# Altium integrated library BajaIntegrated.IntLib: 243 symbols (part 2 of 2)
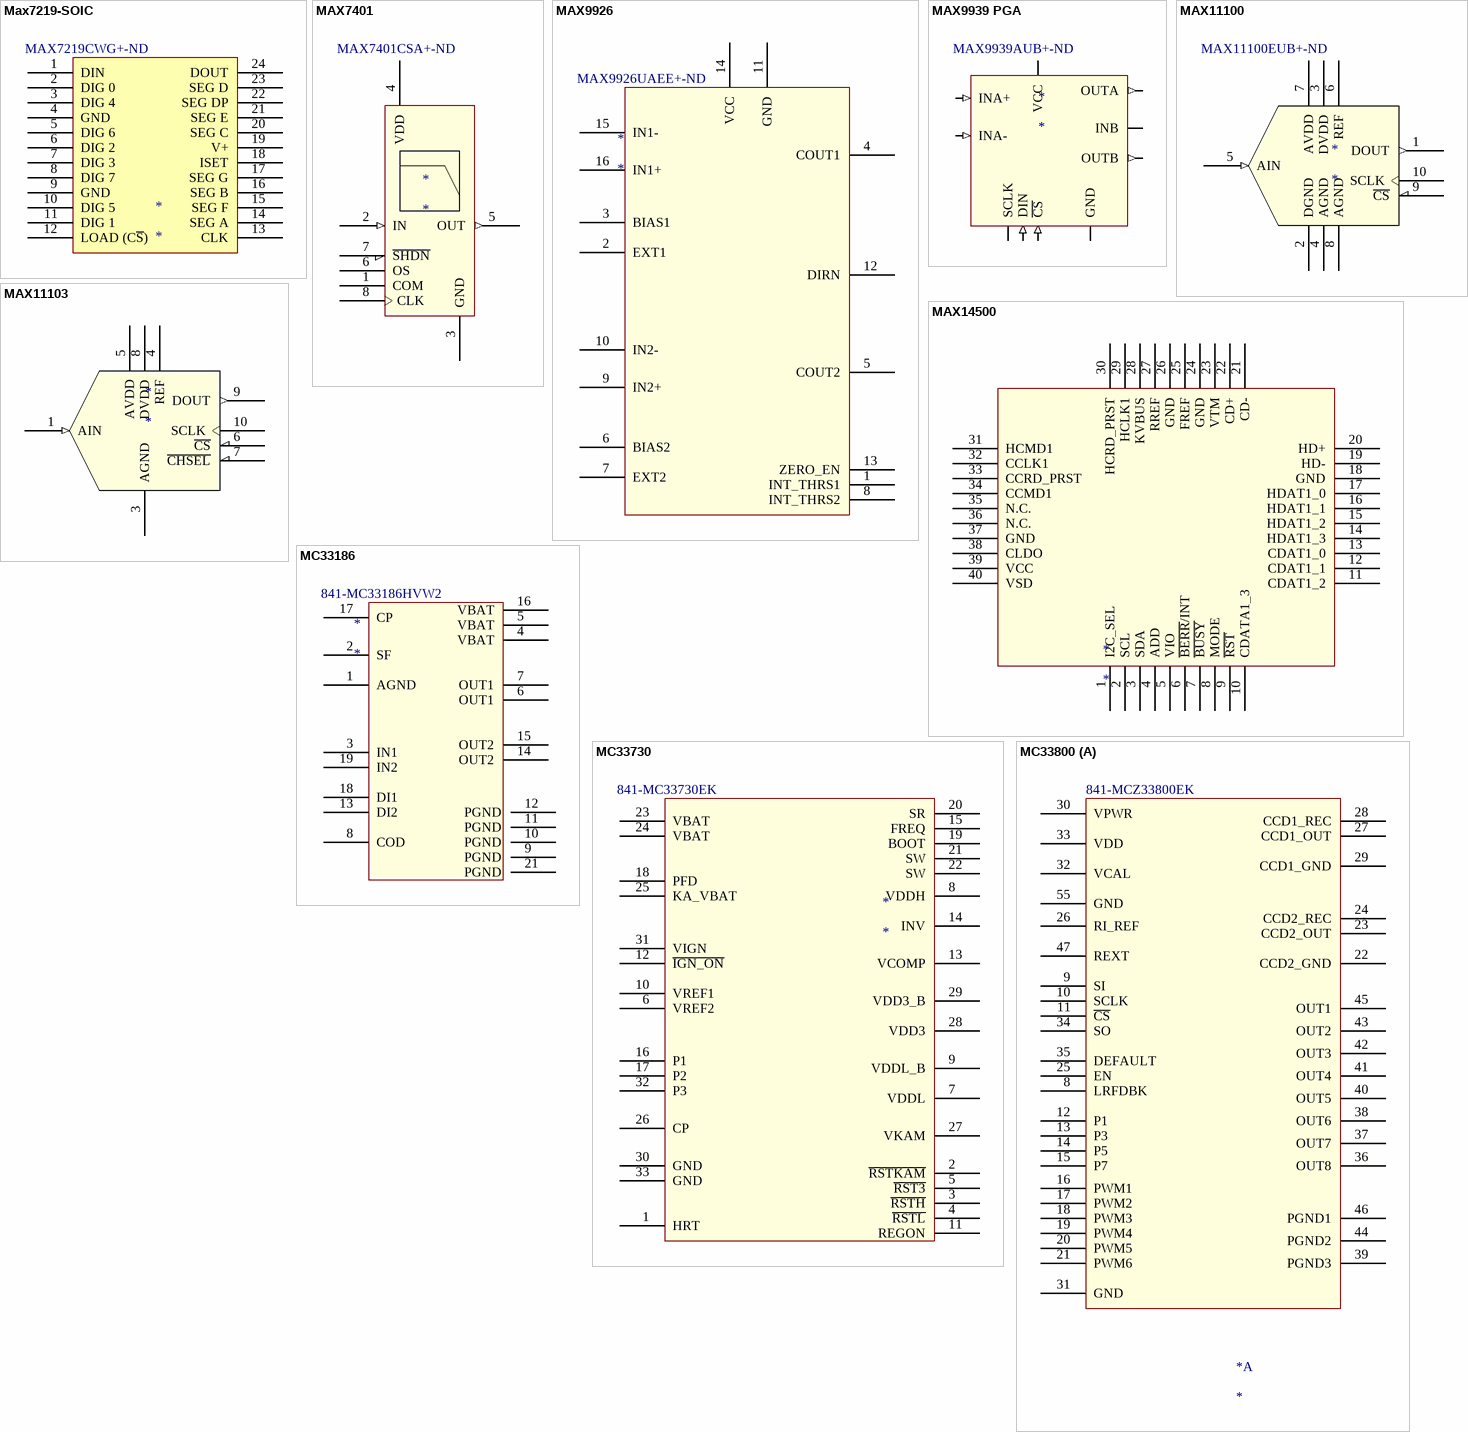
[diagram p17: symbols Max7219-SOIC to MC33800]

## MAX14500
designator *
pins: 1 I2C_SEL, 2 SCL, 3 SDA, 4 ADD, 5 VIO, 6 ~{BERR}/INT, 7 ~{BUSY}, 8 MODE, 9 ~{RST}, 10 CDATA1_3, 11 CDAT1_2, 12 CDAT1_1, 13 CDAT1_0, 14 HDAT1_3, 15 HDAT1_2, 16 HDAT1_1, 17 HDAT1_0, 18 GND, 19 HD-, 20 HD+, 21 CD-, 22 CD+, 23 VTM, 24 GND, 25 FREF, 26 GND, 27 RREF, 28 KVBUS, 29 HCLK1, 30 HCRD_PRST, 31 HCMD1, 32 CCLK1, 33 CCRD_PRST, 34 CCMD1, 35 N.C., 36 N.C., 37 GND, 38 CLDO, 39 VCC, 40 VSD

## MC33186
designator *  Supplier Part Number 1: 841-MC33186HVW2
Supplier 1: Mouser
footprint MC33186 (SOP, 20-Leads, Body 16.0x11.1mm (max), Pitch 1.27mm, IPC Medium Density)
pins: 1 AGND, 2 SF, 3 IN1, 4 VBAT, 5 VBAT, 6 OUT1, 7 OUT1, 8 COD, 9 PGND, 10 PGND, 11 PGND, 12 PGND, 13 DI2, 14 OUT2, 15 OUT2, 16 VBAT, 17 CP, 18 DI1, 19 IN2, 21 PGND

## MC33730
designator *  Supplier Part Number 1: 841-MC33730EK
Supplier 1: Mouser
footprint MC33730 (SOP, 32-Leads, Body 11.1x7.6mm (max), Pitch 0.65mm, IPC Medium Density)
pins: 1 HRT, 2 ~{RSTKAM}, 3 ~{RSTH}, 4 ~{RSTL}, 5 ~{RST3}, 6 VREF2, 7 VDDL, 8 VDDH, 9 VDDL_B, 10 VREF1, 11 REGON, 12 ~{IGN_ON}, 13 VCOMP, 14 INV, 15 FREQ, 16 P1, 17 P2, 18 PFD, 19 BOOT, 20 SR, 21 SW, 22 SW, 23 VBAT, 24 VBAT, 25 KA_VBAT, 26 CP, 27 VKAM, 28 VDD3, 29 VDD3_B, 30 GND, 31 VIGN, 32 P3, 33 GND

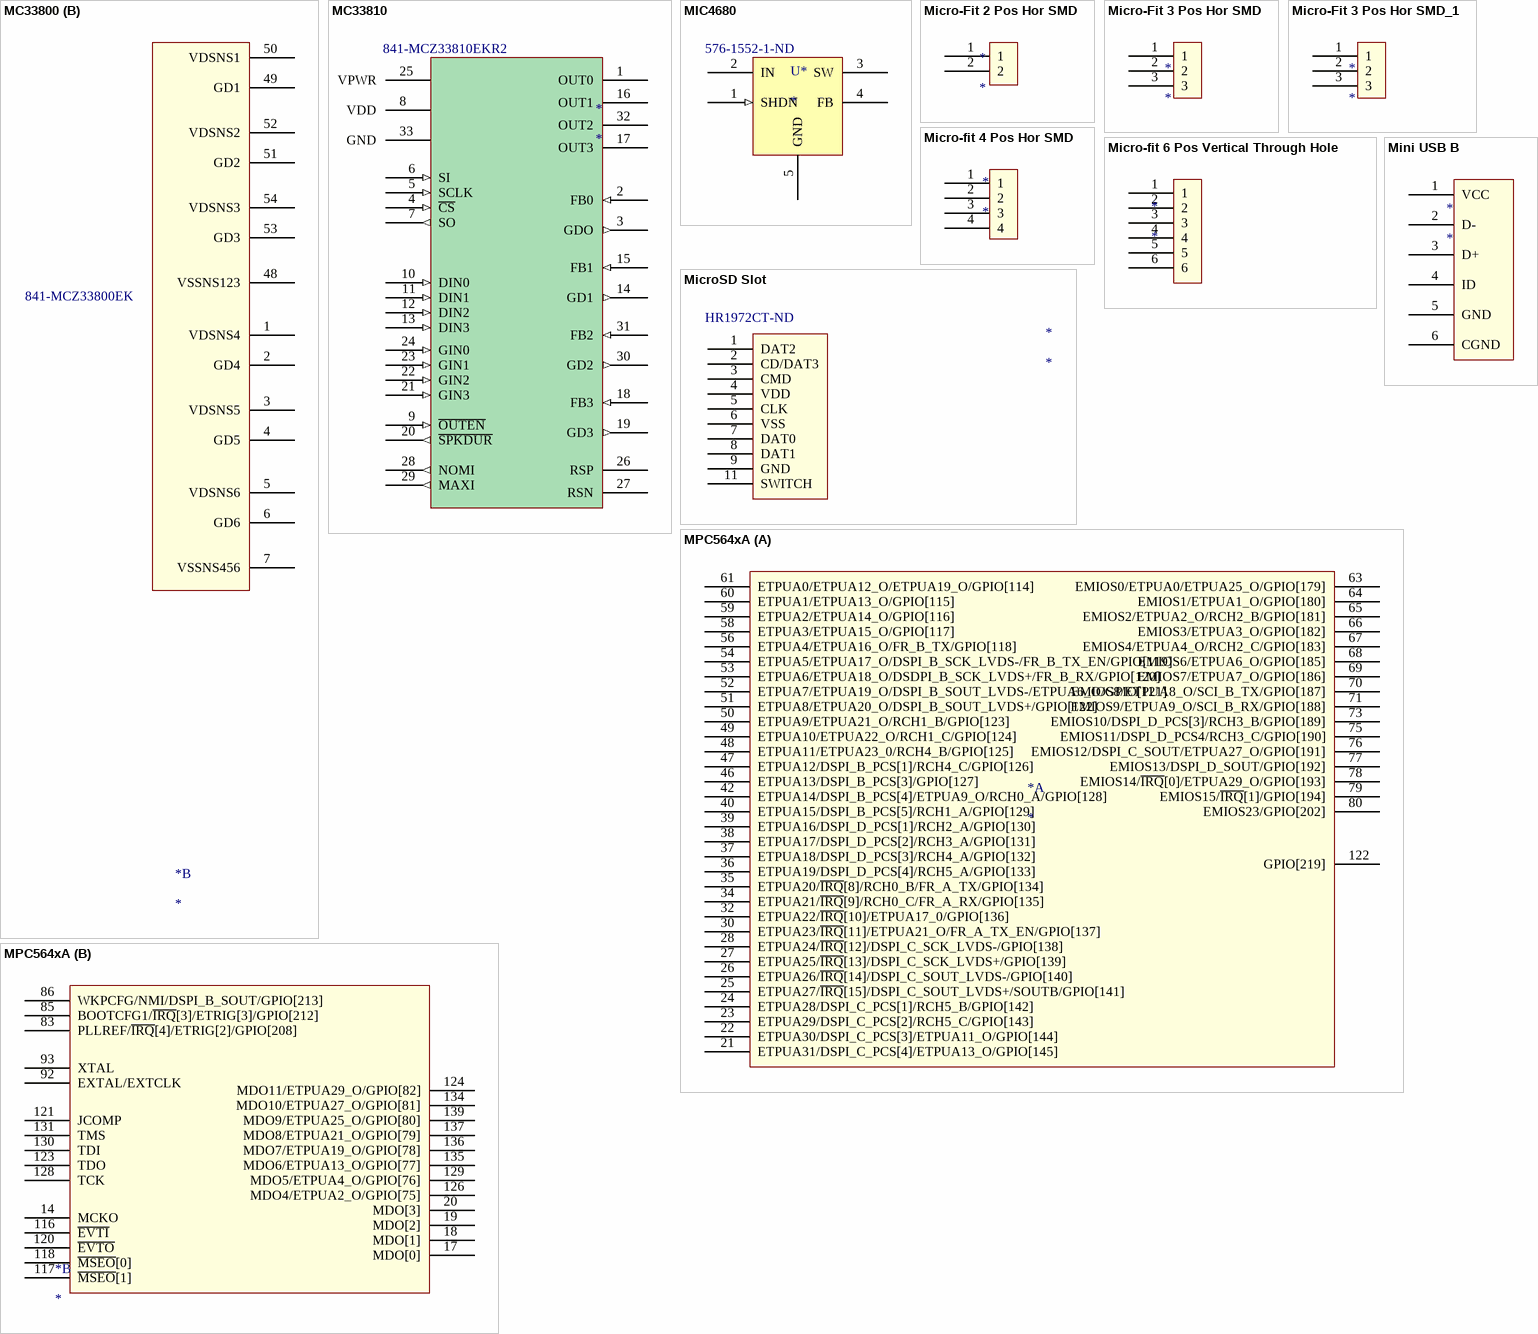
[diagram p9: symbols MC33800 to MPC564xA]

## MC33800
designator *  Supplier Part Number 1: 841-MCZ33800EK
Supplier 1: Mouser
footprint MC33800 (SOP, 54-Leads, Body 18.0x7.6mm (max), Pitch 0.65mm, IPC Medium Density)
part A pins: 8 LRFDBK, 9 SI, 10 SCLK, 11 ~{CS}, 12 P1, 13 P3, 14 P5, 15 P7, 16 PWM1, 17 PWM2, 18 PWM3, 19 PWM4, 20 PWM5, 21 PWM6, 22 CCD2_GND, 23 CCD2_OUT, 24 CCD2_REC, 25 EN, 26 RI_REF, 27 CCD1_OUT, 28 CCD1_REC, 29 CCD1_GND, 30 VPWR, 31 GND, 32 VCAL, 33 VDD, 34 SO, 35 DEFAULT, 36 OUT8, 37 OUT7, 38 OUT6, 39 PGND3, 40 OUT5, 41 OUT4, 42 OUT3, 43 OUT2, 44 PGND2, 45 OUT1, 46 PGND1, 47 REXT, 55 GND
part B pins: 1 VDSNS4, 2 GD4, 3 VDSNS5, 4 GD5, 5 VDSNS6, 6 GD6, 7 VSSNS456, 48 VSSNS123, 49 GD1, 50 VDSNS1, 51 GD2, 52 VDSNS2, 53 GD3, 54 VDSNS3

## MC33810
designator *  Supplier Part Number 1: 841-MCZ33810EKR2
Supplier 1: Mouser
footprint MC33810 (SOP, 32-Leads, Body 11.1x7.6mm (max), Pitch 0.65mm, IPC Medium Density)
pins: 1 OUT0 (oc), 2 FB0 (in), 3 GDO (out), 4 ~{CS} (in), 5 SCLK (in), 6 SI (in), 7 SO (out), 8 VDD (power), 9 ~{OUTEN} (in), 10 DIN0 (in), 11 DIN1 (in), 12 DIN2 (in), 13 DIN3 (in), 14 GD1 (out), 15 FB1 (in), 16 OUT1, 17 OUT3, 18 FB3 (in), 19 GD3 (out), 20 ~{SPKDUR} (out), 21 GIN3 (in), 22 GIN2 (in), 23 GIN1 (in), 24 GIN0 (in), 25 VPWR (power), 26 RSP, 27 RSN, 28 NOMI (out), 29 MAXI (out), 30 GD2 (out), 31 FB2 (in), 32 OUT2, 33 GND

## MIC4680
designator U*  Supplier Part Number 1: 576-1552-1-ND
3.3V Fixed Switching Regulator 1A; Supplier 1: Digi-Key
footprint TJA1040 (SOIC, 8-Leads, Body 5.0x4.0mm (max), Pitch 1.27mm, IPC Medium Density)
pins: 1 SHDN (in), 2 IN, 3 SW, 4 FB, 5 GND, 6, 7, 8

## Micro-Fit 2 Pos Hor SMD
designator *
footprint Micro-fit 2 Pos Hor SMD - duplicate
pins: 1, 2

## Micro-Fit 3 Pos Hor SMD
designator *
footprint Micro-fit 3 Pos Hor SMD - duplicate1
pins: 1, 2, 3

## Micro-Fit 3 Pos Hor SMD_1
designator *
footprint Micro-fit 3 Pos Hor SMD - duplicate1
pins: 1, 2, 3

## Micro-fit 4 Pos Hor SMD
designator *
footprint Micro-fit 4 Pos Hor SMD
pins: 1, 2, 3, 4

## Micro-fit 6 Pos Vertical Through Hole
designator *
footprint Microfit 6 Pos Vertical Through Hole
pins: 1, 2, 3, 4, 5, 6

## MicroSD Slot
designator *  Supplier Part Number 1: HR1972CT-ND
Supplier 1: Digi-Key
footprint MicroSD Slot (DM3CS-SF)
pins: 1 DAT2, 2 CD/DAT3, 3 CMD, 4 VDD, 5 CLK, 6 VSS, 7 DAT0, 8 DAT1, 9 GND, 11 SWITCH

## Mini USB B
designator *
footprint Mini USB B
pins: 1 VCC, 2 D-, 3 D+, 4 ID, 5 GND, 6 CGND

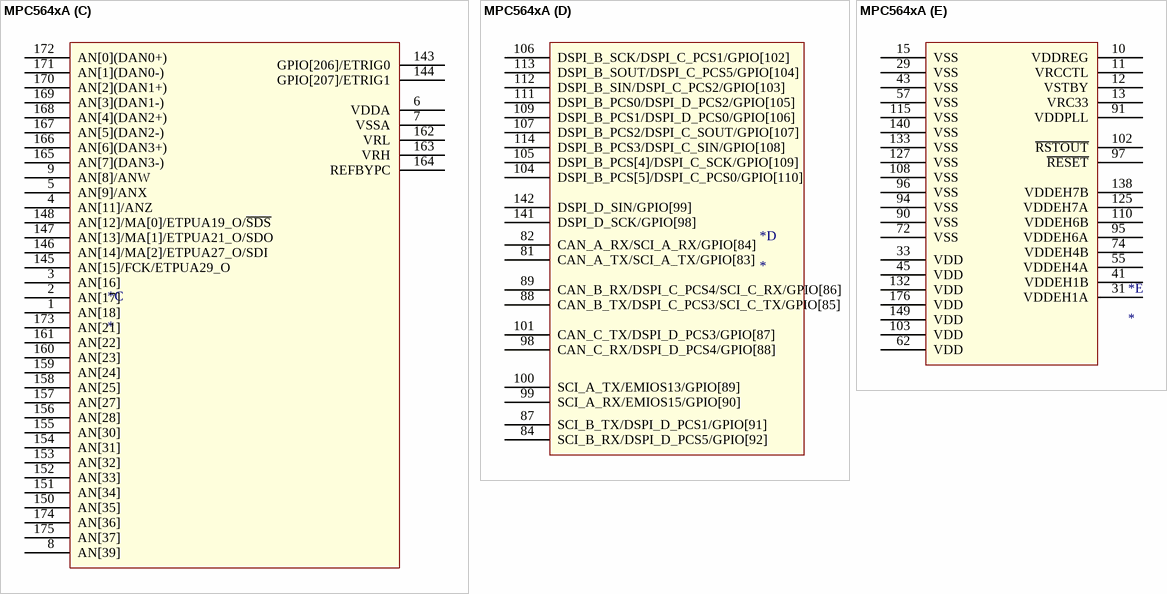
[diagram p10: symbol MPC564xA]

## MPC564xA
designator *
footprint MPC564xA (TSQFP, 176-Leads, Body 26.0x26.0mm (max), Pitch 0.50mm, IPC Medium Density)
part A pins: 21 ETPUA31/DSPI_C_PCS[4]/ETPUA13_O/GPIO[145], 22 ETPUA30/DSPI_C_PCS[3]/ETPUA11_O/GPIO[144], 23 ETPUA29/DSPI_C_PCS[2]/RCH5_C/GPIO[143], 24 ETPUA28/DSPI_C_PCS[1]/RCH5_B/GPIO[142], 25 ETPUA27/~{IRQ}[15]/DSPI_C_SOUT_LVDS+/SOUTB/GPIO[141], 26 ETPUA26/~{IRQ}[14]/DSPI_C_SOUT_LVDS-/GPIO[140], 27 ETPUA25/~{IRQ}[13]/DSPI_C_SCK_LVDS+/GPIO[139], 28 ETPUA24/~{IRQ}[12]/DSPI_C_SCK_LVDS-/GPIO[138], 30 ETPUA23/~{IRQ}[11]/ETPUA21_O/FR_A_TX_EN/GPIO[137], 32 ETPUA22/~{IRQ}[10]/ETPUA17_0/GPIO[136], 34 ETPUA21/~{IRQ}[9]/RCH0_C/FR_A_RX/GPIO[135], 35 ETPUA20/~{IRQ}[8]/RCH0_B/FR_A_TX/GPIO[134], 36 ETPUA19/DSPI_D_PCS[4]/RCH5_A/GPIO[133], 37 ETPUA18/DSPI_D_PCS[3]/RCH4_A/GPIO[132], 38 ETPUA17/DSPI_D_PCS[2]/RCH3_A/GPIO[131], 39 ETPUA16/DSPI_D_PCS[1]/RCH2_A/GPIO[130], 40 ETPUA15/DSPI_B_PCS[5]/RCH1_A/GPIO[129], 42 ETPUA14/DSPI_B_PCS[4]/ETPUA9_O/RCH0_A/GPIO[128], 46 ETPUA13/DSPI_B_PCS[3]/GPIO[127], 47 ETPUA12/DSPI_B_PCS[1]/RCH4_C/GPIO[126], 48 ETPUA11/ETPUA23_0/RCH4_B/GPIO[125], 49 ETPUA10/ETPUA22_O/RCH1_C/GPIO[124], 50 ETPUA9/ETPUA21_O/RCH1_B/GPIO[123], 51 ETPUA8/ETPUA20_O/DSPI_B_SOUT_LVDS+/GPIO[122], 52 ETPUA7/ETPUA19_O/DSPI_B_SOUT_LVDS-/ETPUA6_O/GPIO[121], 53 ETPUA6/ETPUA18_O/DSDPI_B_SCK_LVDS+/FR_B_RX/GPIO[120], 54 ETPUA5/ETPUA17_O/DSPI_B_SCK_LVDS-/FR_B_TX_EN/GPIO[119], 56 ETPUA4/ETPUA16_O/FR_B_TX/GPIO[118], 58 ETPUA3/ETPUA15_O/GPIO[117], 59 ETPUA2/ETPUA14_O/GPIO[116], 60 ETPUA1/ETPUA13_O/GPIO[115], 61 ETPUA0/ETPUA12_O/ETPUA19_O/GPIO[114], 63 EMIOS0/ETPUA0/ETPUA25_O/GPIO[179], 64 EMIOS1/ETPUA1_O/GPIO[180], 65 EMIOS2/ETPUA2_O/RCH2_B/GPIO[181], 66 EMIOS3/ETPUA3_O/GPIO[182], 67 EMIOS4/ETPUA4_O/RCH2_C/GPIO[183], 68 EMIOS6/ETPUA6_O/GPIO[185], 69 EMIOS7/ETPUA7_O/GPIO[186], 70 EMIOS8/ETPUA8_O/SCI_B_TX/GPIO[187], 71 EMIOS9/ETPUA9_O/SCI_B_RX/GPIO[188], 73 EMIOS10/DSPI_D_PCS[3]/RCH3_B/GPIO[189], 75 EMIOS11/DSPI_D_PCS4/RCH3_C/GPIO[190], 76 EMIOS12/DSPI_C_SOUT/ETPUA27_O/GPIO[191], 77 EMIOS13/DSPI_D_SOUT/GPIO[192], 78 EMIOS14/~{IRQ}[0]/ETPUA29_O/GPIO[193], 79 EMIOS15/~{IRQ}[1]/GPIO[194], 80 EMIOS23/GPIO[202], 122 GPIO[219]
part B pins: 14 MCKO, 17 MDO[0], 18 MDO[1], 19 MDO[2], 20 MDO[3], 83 PLLREF/~{IRQ}[4]/ETRIG[2]/GPIO[208], 85 BOOTCFG1/~{IRQ}[3]/ETRIG[3]/GPIO[212], 86 WKPCFG/NMI/DSPI_B_SOUT/GPIO[213], 92 EXTAL/EXTCLK, 93 XTAL, 116 ~{EVTI}, 117 ~{MSEO}[1], 118 ~{MSEO}[0], 120 ~{EVTO}, 121 JCOMP, 123 TDO, 124 MDO11/ETPUA29_O/GPIO[82], 126 MDO4/ETPUA2_O/GPIO[75], 128 TCK, 129 MDO5/ETPUA4_O/GPIO[76], 130 TDI, 131 TMS, 134 MDO10/ETPUA27_O/GPIO[81], 135 MDO6/ETPUA13_O/GPIO[77], 136 MDO7/ETPUA19_O/GPIO[78], 137 MDO8/ETPUA21_O/GPIO[79], 139 MDO9/ETPUA25_O/GPIO[80]
part C pins: 1 AN[18], 2 AN[17], 3 AN[16], 4 AN[11]/ANZ, 5 AN[9]/ANX, 6 VDDA, 7 VSSA, 8 AN[39], 9 AN[8]/ANW, 143 GPIO[206]/ETRIG0, 144 GPIO[207]/ETRIG1, 145 AN[15]/FCK/ETPUA29_O, 146 AN[14]/MA[2]/ETPUA27_O/SDI, 147 AN[13]/MA[1]/ETPUA21_O/SDO, 148 AN[12]/MA[0]/ETPUA19_O/~{SDS}, 150 AN[35], 151 AN[34], 152 AN[33], 153 AN[32], 154 AN[31], 155 AN[30], 156 AN[28], 157 AN[27], 158 AN[25], 159 AN[24], 160 AN[23], 161 AN[22], 162 VRL, 163 VRH, 164 REFBYPC, 165 AN[7](DAN3-), 166 AN[6](DAN3+), 167 AN[5](DAN2-), 168 AN[4](DAN2+), 169 AN[3](DAN1-), 170 AN[2](DAN1+), 171 AN[1](DAN0-), 172 AN[0](DAN0+), 173 AN[21], 174 AN[36], 175 AN[37]
part D pins: 81 CAN_A_TX/SCI_A_TX/GPIO[83], 82 CAN_A_RX/SCI_A_RX/GPIO[84], 84 SCI_B_RX/DSPI_D_PCS5/GPIO[92], 87 SCI_B_TX/DSPI_D_PCS1/GPIO[91], 88 CAN_B_TX/DSPI_C_PCS3/SCI_C_TX/GPIO[85], 89 CAN_B_RX/DSPI_C_PCS4/SCI_C_RX/GPIO[86], 98 CAN_C_RX/DSPI_D_PCS4/GPIO[88], 99 SCI_A_RX/EMIOS15/GPIO[90], 100 SCI_A_TX/EMIOS13/GPIO[89], 101 CAN_C_TX/DSPI_D_PCS3/GPIO[87], 104 DSPI_B_PCS[5]/DSPI_C_PCS0/GPIO[110], 105 DSPI_B_PCS[4]/DSPI_C_SCK/GPIO[109], 106 DSPI_B_SCK/DSPI_C_PCS1/GPIO[102], 107 DSPI_B_PCS2/DSPI_C_SOUT/GPIO[107], 109 DSPI_B_PCS1/DSPI_D_PCS0/GPIO[106], 111 DSPI_B_PCS0/DSPI_D_PCS2/GPIO[105], 112 DSPI_B_SIN/DSPI_C_PCS2/GPIO[103], 113 DSPI_B_SOUT/DSPI_C_PCS5/GPIO[104], 114 DSPI_B_PCS3/DSPI_C_SIN/GPIO[108], 141 DSPI_D_SCK/GPIO[98], 142 DSPI_D_SIN/GPIO[99]
part E pins: 10 VDDREG, 11 VRCCTL, 12 VSTBY, 13 VRC33, 15 VSS, 29 VSS, 31 VDDEH1A, 33 VDD, 41 VDDEH1B, 43 VSS, 45 VDD, 55 VDDEH4A, 57 VSS, 62 VDD, 72 VSS, 74 VDDEH4B, 90 VSS, 91 VDDPLL, 94 VSS, 95 VDDEH6A, 96 VSS, 97 ~{RESET}, 102 ~{RSTOUT}, 103 VDD, 108 VSS, 110 VDDEH6B, 115 VSS, 125 VDDEH7A, 127 VSS, 132 VDD, 133 VSS, 138 VDDEH7B, 140 VSS, 149 VDD, 176 VDD

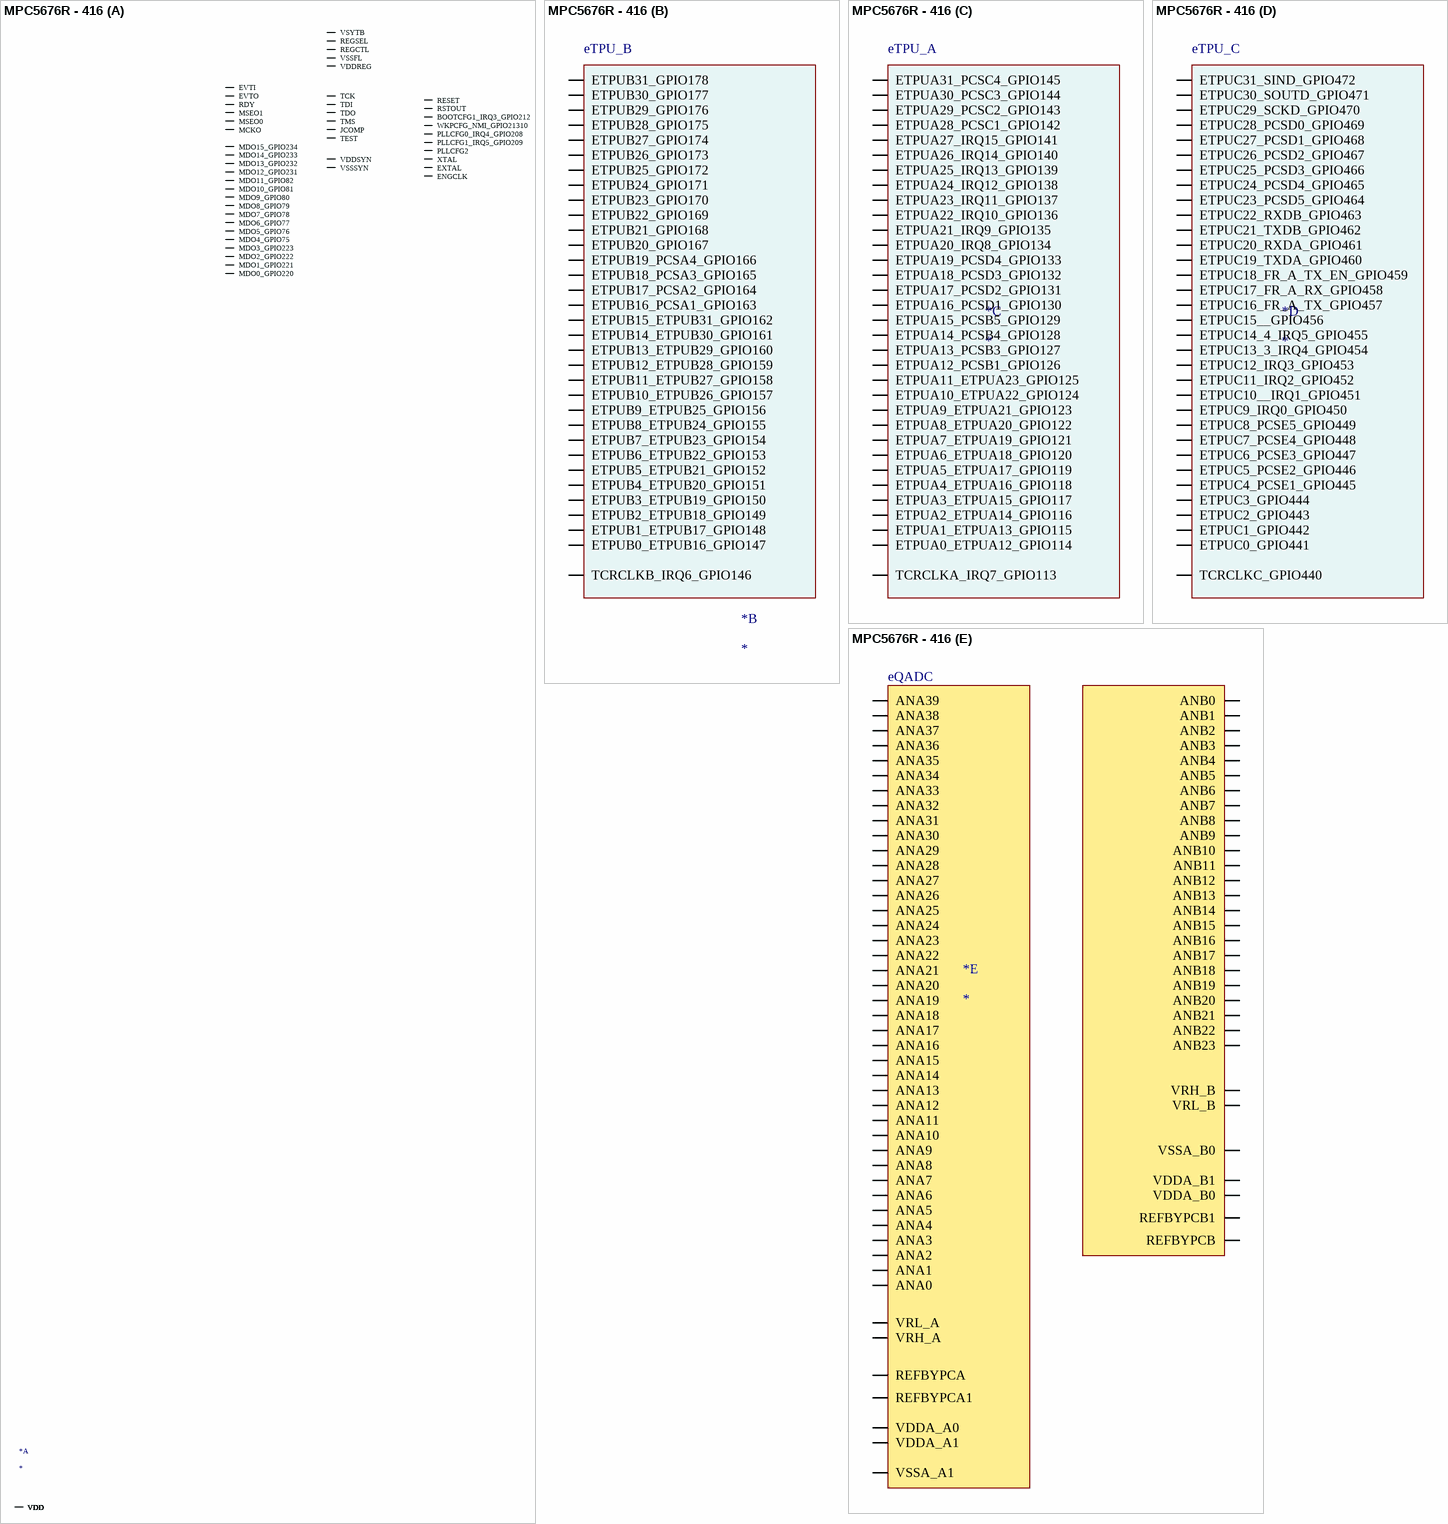
[diagram p11: symbol MPC5676R - 416]

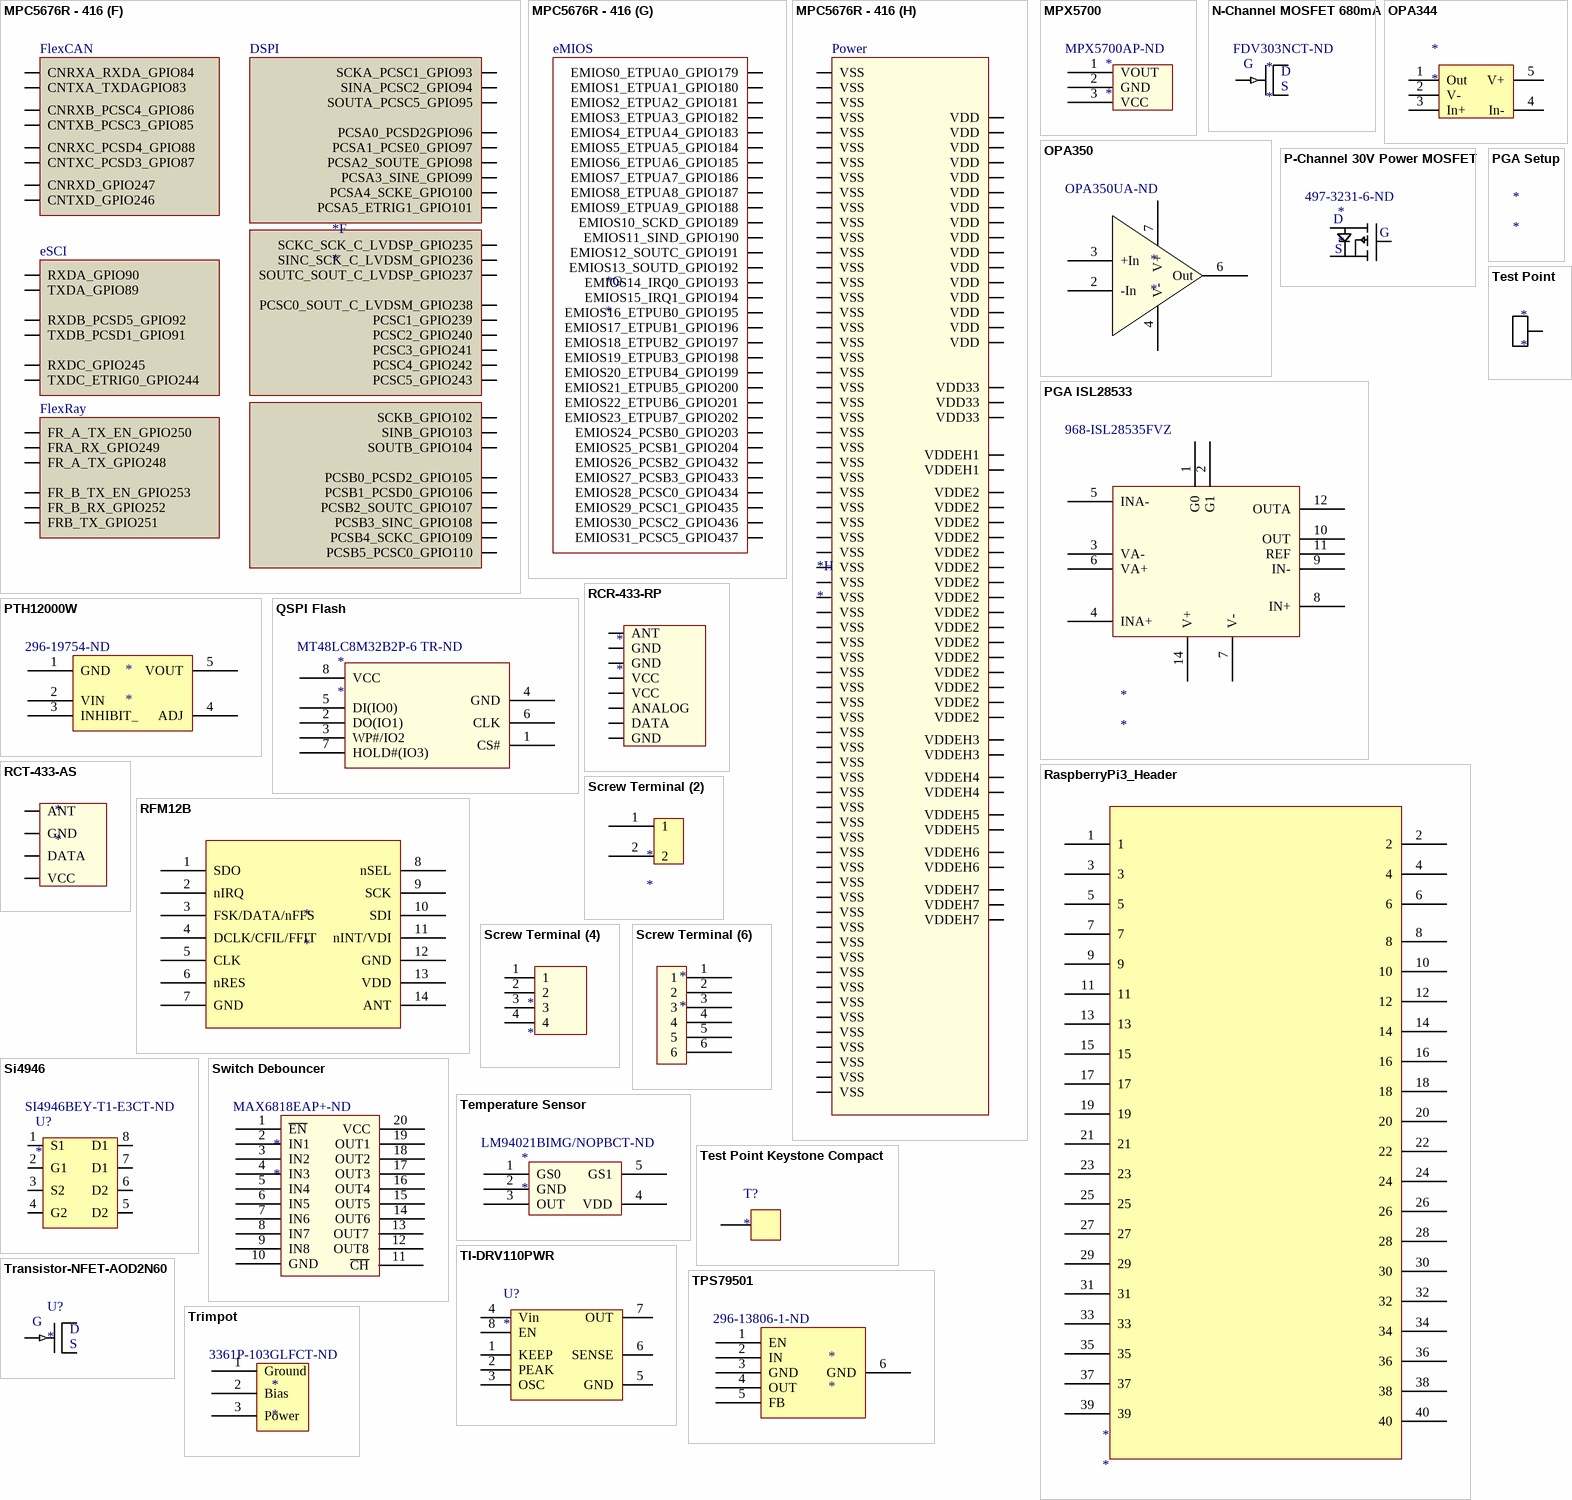
[diagram p12: symbols MPC5676R - 416 to Trimpot]

## MPC5676R - 416
designator *
footprint BGA416C100P26X26_2700X2700X255 (BGA, 416-Leads, Body 27.00x27.00mmx2.55mm, Pitch 1.00mm)
part A pins: A2 VDD, A3 RSTOUT, AA1 MDO12_GPIO231, AA2 MDO13_GPIO232, AA3 MDO14_GPIO233, AA25 VDDREG, AA26 VSSSYN, AB1 TDO, AB2 TCK, AB3 TMS, AB4 VDD, AB23 VDD, AB25 VSSFL, AB26 EXTAL, AC2 TDI, AC3 VDD, AC12 VDD, AC24 VDD, AC26 XTAL, AD1 ENGCLK, AD25 VDD, AD26 VDDSYN, AE26 VDD, B3 VDD, B4 TEST, C4 VDD, D5 VDD, M4 VSYTB, N2 BOOTCFG1_IRQ3_GPIO212, N3 WKPCFG_NMI_GPIO21310, N4 VDD, P2 PLLCFG1_IRQ5_GPIO209, P3 PLLCFG2, R1 JCOMP, R2 RESET, R3 PLLCFG0_IRQ4_GPIO208, R4 RDY, T2 MCKO, T3 MSEO1, T4 EVTI, U1 EVTO, U2 MSEO0, U3 MDO0_GPIO220, U4 MDO1_GPIO221, V1 MDO2_GPIO222, V2 MDO3_GPIO223, V3 MDO4_GPIO75, V4 MDO5_GPIO76, W1 MDO6_GPIO77, W2 MDO7_GPIO78, W3 MDO8_GPIO79, W23 REGSEL, Y1 MDO9_GPIO80, Y2 MDO10_GPIO81, Y3 MDO11_GPIO82, Y4 MDO15_GPIO234, Y26 REGCTL
part B pins: AA24 ETPUB30_GPIO177, AB24 ETPUB31_GPIO178, M24 ETPUB15_ETPUB31_GPIO162, M25 ETPUB14_ETPUB30_GPIO161, N24 ETPUB11_ETPUB27_GPIO158, N25 ETPUB12_ETPUB28_GPIO159, N26 ETPUB13_ETPUB29_GPIO160, P23 ETPUB7_ETPUB23_GPIO154, P24 ETPUB8_ETPUB24_GPIO155, P25 ETPUB9_ETPUB25_GPIO156, P26 ETPUB10_ETPUB26_GPIO157, R23 ETPUB3_ETPUB19_GPIO150, R24 ETPUB4_ETPUB20_GPIO151, R25 ETPUB5_ETPUB21_GPIO152, R26 ETPUB6_ETPUB22_GPIO153, T23 TCRCLKB_IRQ6_GPIO146, T24 ETPUB0_ETPUB16_GPIO147, T25 ETPUB1_ETPUB17_GPIO148, T26 ETPUB2_ETPUB18_GPIO149, U23 ETPUB19_PCSA4_GPIO166, U24 ETPUB18_PCSA3_GPIO165, U25 ETPUB17_PCSA2_GPIO164, U26 ETPUB16_PCSA1_GPIO163, V23 ETPUB26_GPIO173, V24 ETPUB22_GPIO169, V25 ETPUB21_GPIO168, V26 ETPUB20_GPIO167, W24 ETPUB25_GPIO172, W25 ETPUB24_GPIO171, W26 ETPUB23_GPIO170, Y23 ETPUB29_GPIO176, Y24 ETPUB28_GPIO175, Y25 ETPUB27_GPIO174
part C pins: C1 ETPUA30_PCSC3_GPIO144, C2 ETPUA31_PCSC4_GPIO145, D1 ETPUA27_IRQ15_GPIO141, D2 ETPUA28_PCSC1_GPIO142, D3 ETPUA29_PCSC2_GPIO143, E1 ETPUA23_IRQ11_GPIO137, E2 ETPUA24_IRQ12_GPIO138, E3 ETPUA25_IRQ13_GPIO139, E4 ETPUA26_IRQ14_GPIO140, F1 ETPUA19_PCSD4_GPIO133, F2 ETPUA20_IRQ8_GPIO134, F3 ETPUA21_IRQ9_GPIO135, F4 ETPUA22_IRQ10_GPIO136, G1 ETPUA15_PCSB5_GPIO129, G2 ETPUA16_PCSD1_GPIO130, G3 ETPUA17_PCSD2_GPIO131, G4 ETPUA18_PCSD3_GPIO132, H1 ETPUA11_ETPUA23_GPIO125, H2 ETPUA12_PCSB1_GPIO126, H3 ETPUA14_PCSB4_GPIO128, H4 ETPUA13_PCSB3_GPIO127, J1 ETPUA7_ETPUA19_GPIO121, J2 ETPUA8_ETPUA20_GPIO122, J3 ETPUA9_ETPUA21_GPIO123, J4 ETPUA10_ETPUA22_GPIO124, K1 ETPUA3_ETPUA15_GPIO117, K2 ETPUA4_ETPUA16_GPIO118, K3 ETPUA5_ETPUA17_GPIO119, K4 ETPUA6_ETPUA18_GPIO120, L1 TCRCLKA_IRQ7_GPIO113, L2 ETPUA0_ETPUA12_GPIO114, L3 ETPUA1_ETPUA13_GPIO115, L4 ETPUA2_ETPUA14_GPIO116
part D pins: B26 TCRCLKC_GPIO440, C25 ETPUC0_GPIO441, C26 ETPUC1_GPIO442, D25 ETPUC2_GPIO443, D26 ETPUC3_GPIO444, E24 ETPUC4_PCSE1_GPIO445, E25 ETPUC5_PCSE2_GPIO446, E26 ETPUC6_PCSE3_GPIO447, F23 ETPUC7_PCSE4_GPIO448, F24 ETPUC8_PCSE5_GPIO449, F25 ETPUC9_IRQ0_GPIO450, F26 ETPUC10__IRQ1_GPIO451, G23 ETPUC11_IRQ2_GPIO452, G24 ETPUC12_IRQ3_GPIO453, G25 ETPUC13_3_IRQ4_GPIO454, G26 ETPUC14_4_IRQ5_GPIO455, H23 ETPUC15__GPIO456, H24 ETPUC16_FR_A_TX_GPIO457, H25 ETPUC17_FR_A_RX_GPIO458, H26 ETPUC18_FR_A_TX_EN_GPIO459, J23 ETPUC19_TXDA_GPIO460, J24 ETPUC20_RXDA_GPIO461, J25 ETPUC21_TXDB_GPIO462, J26 ETPUC22_RXDB_GPIO463, K23 ETPUC23_PCSD5_GPIO464, K24 ETPUC24_PCSD4_GPIO465, K25 ETPUC25_PCSD3_GPIO466, K26 ETPUC26_PCSD2_GPIO467, L23 ETPUC27_PCSD1_GPIO468, L24 ETPUC28_PCSD0_GPIO469, L25 ETPUC29_SCKD_GPIO470, L26 ETPUC30_SOUTD_GPIO471, M23 ETPUC31_SIND_GPIO472
part E pins: A4 ANA0, A5 ANA4, A6 ANA8, A7 ANA11, A8 ANA15, A9 VDDA_A0, A10 REFBYPCA1, A11 VRL_A, A12 VRH_A, A13 ANA28, A14 ANA32, A15 ANA36, A16 VDDA_B0, A17 REFBYPCB1, A18 VRL_B, A19 VRH_B, A20 ANB7, A21 ANB11, A22 ANB14, A23 ANB17, A24 ANB21, A25 ANB23, B5 ANA1, B6 ANA5, B7 ANA10, B8 ANA14, B9 VDDA_A1, B10 VSSA_A1, B11 REFBYPCA, B12 ANA24, B13 ANA27, B14 ANA29, B15 ANA33, B16 VDDA_B1, B17 VSSA_B0, B18 REFBYPCB, B19 ANB6, B20 ANB8, B21 ANB10, B22 ANB15, B23 ANB18, B24 ANB22, C5 ANA2, C6 ANA6, C7 ANA9, C8 ANA13, C9 ANA17, C10 ANA19, C11 ANA21, C12 ANA23, C13 ANA26, C14 ANA30, C15 ANA34, C16 ANA37, C17 ANA38, C18 ANB0, C19 ANB4, C20 ANB5, C21 ANB12, C22 ANB16, C23 ANB19, D6 ANA3, D7 ANA7, D8 ANA12, D9 ANA16, D10 ANA18, D11 ANA20, D12 ANA22, D13 ANA25, D14 ANA31, D15 ANA35, D16 ANA39, D17 ANB1, D18 ANB2, D19 ANB3, D20 ANB9, D21 ANB13, D22 ANB20
part F pins: AC6 PCSA1_PCSE0_GPIO97, AC7 PCSA2_SOUTE_GPIO98, AC8 PCSB4_SCKC_GPIO109, AC9 PCSB1_PCSD0_GPIO106, AC19 CNRXB_PCSC4_GPIO86, AC20 CNRXD_GPIO247, AC22 PCSC1_GPIO239, AD4 FR_A_TX_GPIO248, AD5 FRB_TX_GPIO251, AD6 PCSA5_ETRIG1_GPIO101, AD7 SOUTA_PCSC5_GPIO95, AD8 SCKA_PCSC1_GPIO93, AD9 PCSB0_PCSD2_GPIO105, AD10 PCSB3_SINC_GPIO108, AD19 CNTXB_PCSC3_GPIO85, AD20 CNTXD_GPIO246, AD21 SCKC_SCK_C_LVDSP_GPIO235, AD22 RXDC_GPIO245, AD23 PCSC3_GPIO241, AE3 FRA_RX_GPIO249, AE4 FR_B_RX_GPIO252, AE5 PCSA4_SCKE_GPIO100, AE6 PCSA0_PCSD2GPIO96, AE7 PCSA3_SINE_GPIO99, AE8 SCKB_GPIO102, AE9 SINB_GPIO103, AE19 CNRXA_RXDA_GPIO84, AE20 CNRXC_PCSD4_GPIO88, AE21 PCSC0_SOUT_C_LVDSM_GPIO238, AE22 SINC_SCK_C_LVDSM_GPIO236, AE23 PCSC2_GPIO240, AE24 PCSC5_GPIO243, AF3 FR_A_TX_EN_GPIO250, AF4 FR_B_TX_EN_GPIO253, AF6 PCSB5_PCSC0_GPIO110, AF7 SINA_PCSC2_GPIO94, AF8 PCSB2_SOUTC_GPIO107, AF9 SOUTB_GPIO104, AF19 CNTXA_TXDAGPIO83, AF20 CNTXC_PCSD3_GPIO87, AF21 SOUTC_SOUT_C_LVDSP_GPIO237, AF23 TXDC_ETRIG0_GPIO244, AF24 PCSC4_GPIO242, M2 TXDA_GPIO89, M3 RXDA_GPIO90, N1 RXDB_PCSD5_GPIO92, P1 TXDB_PCSD1_GPIO91
part G pins: AC13 EMIOS8_ETPUA8_GPIO187, AC14 EMIOS14_IRQ0_GPIO193, AC15 EMIOS18_ETPUB2_GPIO197, AC16 EMIOS22_ETPUB6_GPIO201, AC17 EMIOS27_PCSB3_GPIO433, AC18 EMIOS31_PCSC5_GPIO437, AD11 EMIOS2_ETPUA2_GPIO181, AD12 EMIOS5_ETPUA5_GPIO184, AD13 EMIOS9_ETPUA9_GPIO188, AD14 EMIOS15_IRQ1_GPIO194, AD15 EMIOS19_ETPUB3_GPIO198, AD16 EMIOS23_ETPUB7_GPIO202, AD17 EMIOS26_PCSB2_GPIO432, AD18 EMIOS30_PCSC2_GPIO436, AE10 EMIOS0_ETPUA0_GPIO179, AE11 EMIOS3_ETPUA3_GPIO182, AE12 EMIOS6_ETPUA6_GPIO185, AE13 EMIOS10_SCKD_GPIO189, AE14 EMIOS13_SOUTD_GPIO192, AE15 EMIOS17_ETPUB1_GPIO196, AE16 EMIOS21_ETPUB5_GPIO200, AE17 EMIOS25_PCSB1_GPIO204, AE18 EMIOS29_PCSC1_GPIO435, AF10 EMIOS1_ETPUA1_GPIO180, AF11 EMIOS4_ETPUA4_GPIO183, AF12 EMIOS7_ETPUA7_GPIO186, AF13 EMIOS11_SIND_GPIO190, AF14 EMIOS12_SOUTC_GPIO191, AF15 EMIOS16_ETPUB0_GPIO195, AF16 EMIOS20_ETPUB4_GPIO199, AF17 EMIOS24_PCSB0_GPIO203, AF18 EMIOS28_PCSC0_GPIO434
part H pins: A1 VSS, A2 VDD, A26 VSS, AA4 VDD33, AA23 VDD33, AB4 VDD, AB23 VDD, AC1 VDDE2, AC3 VDD, AC4 VSS, AC5 VDDE2, AC10 VDDEH3, AC11 VDDEH4, AC12 VDD, AC21 VDDEH5, AC23 VSS, AC24 VDD, AC25 VDDEH6, AD2 VDD, AD3 VSS, AD24 VSS, AD25 VDD, AD26 VDD, AE1 VDD, AE2 VSS, AE18 VDD, AE25 VSS, AE26 VDD, AF1 VSS, AF2 VDDE2, AF5 VDDEH3, AF22 VDDEH4, AF25 VDDEH5, AF26 VSS, B1 VDDEH1, B2 VSS, B3 VDD, B25 VSS, C3 VSS, C4 VDD, C24 VSS, D4 VSS, D5 VDD, D23 VSS, D24 VDDEH7, E23 VDDEH7, K10 VSS, K11 VSS, K12 VSS, K13 VSS, K14 VSS, K15 VSS, K16 VSS, K17 VSS, L10 VSS, L11 VSS, L12 VSS, L13 VSS, L14 VSS, L15 VSS, L16 VSS, L17 VSS, M1 VDD33, M10 VSS, M11 VSS, M12 VSS, M13 VSS, M14 VSS, M15 VSS, M16 VSS, M17 VSS, M26 VDDEH7, N4 VDD, N10 VDDE2, N11 VSS, N12 VSS, N13 VSS, N14 VSS, N15 VSS, N16 VSS, N17 VSS, N23 VDDEH6, P4 VDDEH1, P10 VDDE2, P11 VDDE2, P12 VSS, P13 VSS, P14 VSS, P15 VSS, P16 VSS, P17 VSS, R10 VDDE2, R11 VDDE2, R12 VSS, R13 VSS, R14 VSS, R15 VSS, R16 VSS, R17 VSS, T1 VDDE2, T10 VDDE2, T11 VDDE2, T12 VDDE2, T13 VSS, T14 VSS, T15 VSS, T16 VSS, T17 VSS, U10 VDDE2, U11 VDDE2, U12 VDDE2, U13 VSS, U14 VSS, U15 VSS, U16 VSS, U17 VSS, W4 VDDE2
part B text: eTPU_B
part C text: eTPU_A
part D text: eTPU_C
part E text: eQADC
part F text: FlexCAN; DSPI; eSCI; FlexRay
part G text: eMIOS
part H text: Power

## MPX5700
designator *  Supplier Part Number 1: MPX5700AP-ND
Supplier 1: Digi-Key
footprint MPX5700AP
pins: 1 VOUT, 2 GND, 3 VCC

## N-Channel MOSFET 680mA
designator *  Supplier Part Number 1: FDV303NCT-ND
Supplier 1: Digi-Key
footprint N-Channel MOSFET 680mA (FDV303N)
pins: 1 G, 2 D, 3 S

## OPA344
designator *
footprint OPA344
pins: 1 Out, 2 V-, 3 In+, 4 In-, 5 V+

## OPA350
designator *  Supplier Part Number 1: OPA350UA-ND
High Speed A/D Buffer; Supplier 1: Digi-Key; ComponentLink1URL: http://www.ti.com/lit/ds/symlink/opa350.pdf; ComponentLink1Description: http://www.ti.com/lit/ds/symlink/opa350.pdf
footprint SOIC127P600X175-8N (SOIC, 8-Leads, Body 5.0x4.0mm (max), Pitch 1.27mm, IPC Medium Density)
pins: 2 -In, 3 +In, 4 V-, 6 Out, 7 V+

## P-Channel 30V Power MOSFET
designator *  Supplier Part Number 1: 497-3231-6-ND
Supplier 1: Digi-Key; ComponentLink1URL: http://www.st.com/web/en/resource/technical/document/datasheet/CD00001945.pdf; ComponentLink1Description: http://www.st.com/web/en/resource/technical/document/datasheet/CD00001945.pdf
footprint P-FET Power (STS5PF30L 5A)
pins: 1 G, 2 D, 3 S

## PGA ISL28533
designator *  Supplier Part Number 1: 968-ISL28535FVZ
Supplier 1: Mouser
footprint TSOP65P640X120-14N (TSOP, 14-Leads, Body 5.00x4.40mm, Pitch 0.65mm, IPC Medium Density)
pins: 1 G0, 2 G1, 3 VA-, 4 INA+, 5 INA-, 6 VA+, 7 V-, 8 IN+, 9 IN-, 10 OUT, 11 REF, 12 OUTA, 14 V+

## PGA Setup
designator *

## PTH12000W
designator *  Supplier Part Number 1: 296-19754-ND
Adj 6A 12Vin Power Module; ComponentLink1URL: http://www.ti.com/lit/ds/symlink/pth12000l.pdf; ComponentLink1Description: http://www.ti.com/lit/ds/symlink/pth12000l.pdf; Supplier 1: Digi-Key
footprint PowerModule
pins: 1 GND, 2 VIN, 3 INHIBIT_, 4 ADJ, 5 VOUT

## QSPI Flash
designator *  Supplier Part Number 1: MT48LC8M32B2P-6 TR-ND
Supplier 1: Digi-Key
footprint S25FL032P (SOIC, 8-Leads, Body 5.28x4.64mm, Pitch 1.27mm, IPC Medium Density)
pins: 1 CS#, 2 DO(IO1), 3 WP#/IO2, 4 GND, 5 DI(IO0), 6 CLK, 7 HOLD#(IO3), 8 VCC

## RaspberryPi3_Header
designator *
footprint HDR2X20 (Footprint not found)
pins: 1, 2, 3, 4, 5, 6, 7, 8, 9, 10, 11, 12, 13, 14, 15, 16, 17, 18, 19, 20, 21, 22, 23, 24, 25, 26, 27, 28, 29, 30, 31, 32, 33, 34, 35, 36, 37, 38, 39, 40

## RCR-433-RP
designator *
pins: 1 ANT, 2 GND, 3 GND, 4 VCC, 5 VCC, 6 ANALOG, 7 DATA, 8 GND

## RCT-433-AS
designator *
footprint RCT-433
pins: 1 ANT, 2 GND, 3 DATA, 4 VCC

## RFM12B
designator *
footprint RFM12B
pins: 1 SDO, 2 nIRQ, 3 FSK/DATA/nFFS, 4 DCLK/CFIL/FFIT, 5 CLK, 6 nRES, 7 GND, 8 nSEL, 9 SCK, 10 SDI, 11 nINT/VDI, 12 GND, 13 VDD, 14 ANT

## Screw Terminal (2)
designator *
footprint Terminal Block 2
pins: 1, 2

## Screw Terminal (4)
designator *
footprint Terminal Block 4
pins: 1, 2, 3, 4

## Screw Terminal (6)
designator *
footprint Terminal Block 6
pins: 1, 2, 3, 4, 5, 6

## Si4946
designator U?  Supplier Part Number 1: SI4946BEY-T1-E3CT-ND
Supplier 1: Digi-Key
footprint S0-8
pins: 1 S1, 2 G1, 3 S2, 4 G2, 5 D2, 6 D2, 7 D1, 8 D1

## Switch Debouncer
designator *  Supplier Part Number 1: MAX6818EAP+-ND
Supplier 1: Digi-Key
footprint SOP65P780X199-20N (SOP, 20-Leads, Body 7.3x5.4mm (max), Pitch 0.65mm, IPC Medium Density)
pins: 1 ~{EN}, 2 IN1, 3 IN2, 4 IN3, 5 IN4, 6 IN5, 7 IN6, 8 IN7, 9 IN8, 10 GND, 11 ~{CH}, 12 OUT8, 13 OUT7, 14 OUT6, 15 OUT5, 16 OUT4, 17 OUT3, 18 OUT2, 19 OUT1, 20 VCC

## Temperature Sensor
designator *  Supplier Part Number 1: LM94021BIMG/NOPBCT-ND
Supplier 1: Digi-Key
footprint SOT65P210X110-5N (SOT23, 5-Leads, Body 2.2x2.4mm (max), Pitch 0.65mm, IPC Medium Density)
pins: 1 GS0, 2 GND, 3 OUT, 4 VDD, 5 GS1

## Test Point
designator *
Supplier 1: Digi-Key; Supplier Part Number 1: 5019KCT-ND
footprint Test Point
pins: 1

## Test Point Keystone Compact
designator T?
Supplier 1: Digi-Key; Supplier Part Number 1: 36-5006-ND
footprint Keystone Test Point Compact
pins: 1 "TestPoint"

## TI-DRV110PWR
designator U?
Supplier 1: Digi-Key; Supplier Part Number 1: 296-30454-1-ND
footprint TSSOP-8
pins: 1 KEEP, 2 PEAK, 3 OSC, 4 Vin, 5 GND, 6 SENSE, 7 OUT, 8 EN

## TPS79501
designator *  Supplier Part Number 1: 296-13806-1-ND
Low noise Adjustable LDO; Supplier 1: Digi-Key; ComponentLink1URL: http://www.ti.com/lit/ds/symlink/tps79501.pdf; ComponentLink1Description: http://www.ti.com/lit/ds/symlink/tps79501.pdf
footprint SOT127P706X180-6N (SOT223, 6-Leads, Body 6.6x7.3mm (max), Pitch 1.27mm, IPC Medium Density)
pins: 1 EN, 2 IN, 3 GND, 4 OUT, 5 FB, 6 GND

## Transistor-NFET-AOD2N60
designator U?
Supplier 1: Digi-Key; Supplier Part Number 1: 785-1180-1-ND
footprint TO252_DPAK
pins: 1 G, 2 D, 3 S

## Trimpot
designator *  Supplier Part Number 1: 3361P-103GLFCT-ND
Supplier 1: Digi-Key
footprint TrimPot
pins: 1 Ground, 2 Bias, 3 Power

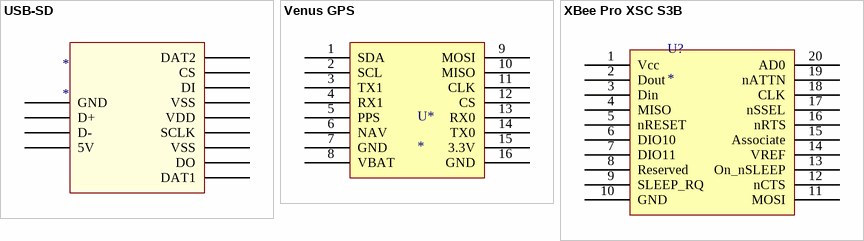
[diagram p13: symbols USB-SD to XBee Pro XSC S3B]

## USB-SD
designator *
footprint SD-USB; pin to pad 5V>4 CS>6 D+>2 D->3 DAT1>13 DAT2>5 DI>7 DO>12 GND>1 SCLK>10 VDD>9 VSS>8
pins: 5V, CS, D+, D-, DAT1, DAT2, DI, DO, GND, SCLK, VDD, VSS, VSS

## Venus GPS
designator U*
Venus GPS Board from Sparkfun
footprint Venus GPS
pins: 1 SDA, 2 SCL, 3 TX1, 4 RX1, 5 PPS, 6 NAV, 7 GND, 8 VBAT, 9 MOSI, 10 MISO, 11 CLK, 12 CS, 13 RX0, 14 TX0, 15 3.3V, 16 GND

## XBee Pro XSC S3B
designator U?
footprint XBee Pro
pins: 1 Vcc, 2 Dout, 3 Din, 4 MISO, 5 nRESET, 6 DIO10, 7 DIO11, 8 Reserved, 9 SLEEP_RQ, 10 GND, 11 MOSI, 12 nCTS, 13 On_nSLEEP, 14 VREF, 15 Associate, 16 nRTS, 17 nSSEL, 18 CLK, 19 nATTN, 20 AD0


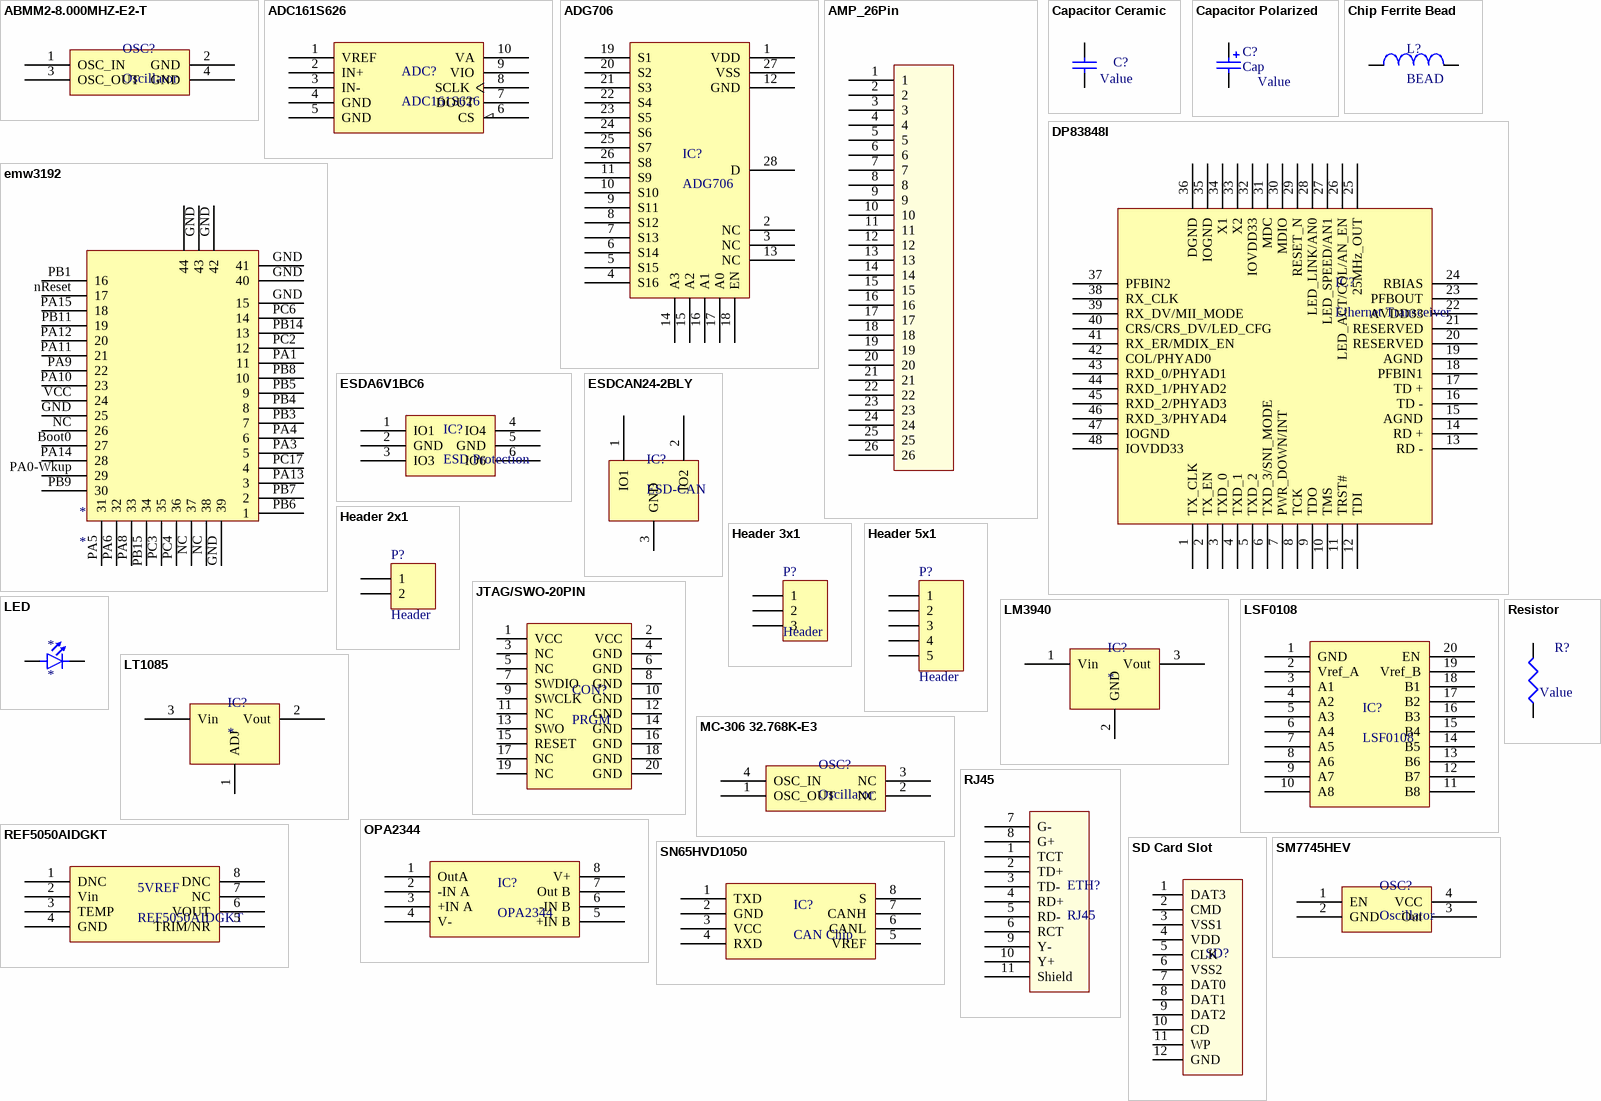
[diagram p14: symbols ABMM2-8.000MHZ-E2-T to SN65HVD1050]

## ABMM2-8.000MHZ-E2-T
designator OSC?, comment Oscillator
8MHz Oscillator
footprint ABMM2-OSC
pins: 1 OSC_IN, 2 GND, 3 OSC_OUT, 4 GND

## ADC161S626
designator ADC?
TI ADC; 250ksps
footprint VSSOP-10 (DGS)
pins: 1 VREF, 2 IN+, 3 IN-, 4 GND, 5 GND, 6 CS, 7 DOUT, 8 SCLK, 9 VIO, 10 VA

## ADG706
designator IC?
16:1 Mux
footprint TSSOP-28
pins: 1 VDD, 2 NC, 3 NC, 4 S16, 5 S15, 6 S14, 7 S13, 8 S12, 9 S11, 10 S10, 11 S9, 12 GND, 13 NC, 14 A3, 15 A2, 16 A1, 17 A0, 18 EN, 19 S1, 20 S2, 21 S3, 22 S4, 23 S5, 24 S6, 25 S7, 26 S8, 27 VSS, 28 D

## AMP_26Pin
designator CON?, comment 26 Pin Conn  (value not drawn)
AMP SuperSeal 1.0 26 Pin
footprint AMP SuperSeal 1.0 26pin
pins: 1, 2, 3, 4, 5, 6, 7, 8, 9, 10, 11, 12, 13, 14, 15, 16, 17, 18, 19, 20, 21, 22, 23, 24, 25, 26

## Capacitor Ceramic
designator C?, comment Cap  (value not drawn)
Ceramic Chip Capacitor; Value: Value
footprint SMD0603
footprint SMD0805
footprint SMD1206
pins: 1, 2

## Capacitor Polarized
designator C?, comment Cap
Polarized Capacitor (Surface Mount); Value: Value
footprint SMD1206 Polarized
pins: 1, 2
1 alternate drawing of the same symbol

## Chip Ferrite Bead
designator L?, comment BEAD
Ferrite Bead; Part: BK1608HS601-TV
footprint SMD0603
pins: 1, 2

## DP83848I
designator IC?, comment Ethernet Transceiver
Ethernet PHY IC; compatitble with DP83848C
footprint LQFP-48 (Specifically: PT (S-PQFP-G48))
pins: 1 TX_CLK, 2 TX_EN, 3 TXD_0, 4 TXD_1, 5 TXD_2, 6 TXD_3/SNI_MODE, 7 PWR_DOWN/INT, 8 TCK, 9 TDO, 10 TMS, 11 TRST#, 12 TDI, 13 RD -, 14 RD +, 15 AGND, 16 TD -, 17 TD +, 18 PFBIN1, 19 AGND, 20 RESERVED, 21 RESERVED, 22 AVDD33, 23 PFBOUT, 24 RBIAS, 25 25MHz_OUT, 26 LED_ACT/COL/AN_EN, 27 LED_SPEED/AN1, 28 LED_LINK/AN0, 29 RESET_N, 30 MDIO, 31 MDC, 32 IOVDD33, 33 X2, 34 X1, 35 IOGND, 36 DGND, 37 PFBIN2, 38 RX_CLK, 39 RX_DV/MII_MODE, 40 CRS/CRS_DV/LED_CFG, 41 RX_ER/MDIX_EN, 42 COL/PHYAD0, 43 RXD_0/PHYAD1, 44 RXD_1/PHYAD2, 45 RXD_2/PHYAD3, 46 RXD_3/PHYAD4, 47 IOGND, 48 IOVDD33

## emw3192
designator *
pins: ?1 44, Boot0 27, GND 15, GND 25, GND 39, GND 40, GND 41, GND 42, GND 43, NC 26, NC 37, NC 38, nReset 17, PA0-Wkup 29, PA1 11, PA3 5, PA4 6, PA5 31, PA6 32, PA8 33, PA9 22, PA10 23, PA11 21, PA12 20, PA13 3, PA14 28, PA15 18, PB1 16, PB3 7, PB4 8, PB5 9, PB6 1, PB7 2, PB8 10, PB9 30, PB11 19, PB14 13, PB15 34, PC2 12, PC3 35, PC4 36, PC6 14, PC17 4, VCC 24

## ESDA6V1BC6
designator IC?, comment ESD Protection
4 channel bi directional ESD protection
footprint SOT23-6L
pins: 1 IO1, 2 GND, 3 IO3, 4 IO4, 5 GND, 6 IO6

## ESDCAN24-2BLY
designator IC?, comment ESD-CAN
footprint SOT-23-3
pins: 1 IO1, 2 IO2, 3 GND

## Header 2x1
designator P?, comment Header
Header, 2-Pin
footprint Header 2x1
pins: 1, 2

## Header 3x1
designator P?, comment Header
Header, 2-Pin
footprint HEADER 3X1
pins: 1, 2, 3

## Header 5x1
designator P?, comment Header
Header, 5-Pin
footprint Header 5x1
pins: 1, 2, 3, 4, 5

## JTAG/SWO-20PIN
designator CON?, comment PRGM
footprint JTAG/SWO-20PIN
pins: 1 VCC, 2 VCC, 3 NC, 4 GND, 5 NC, 6 GND, 7 SWDIO, 8 GND, 9 SWCLK, 10 GND, 11 NC, 12 GND, 13 SWO, 14 GND, 15 RESET, 16 GND, 17 NC, 18 GND, 19 NC, 20 GND

## LED
designator *
footprint SMD0603 POLARIZED
pins: 1 Anode (+), 2 Cathode (-)

## LM3940
designator IC?
3.3V 1A LDO
footprint LM78XX (LM78XX Voltage Reg)
footprint SOT-223
pins: 1 Vin, 2 GND, 3 Vout

## LSF0108
designator IC?
8 bit 5V to 3.3V level shifter
footprint TSSOP-20 (Specifically: PW (R-PDSO-G20))
pins: 1 GND, 2 Vref_A, 3 A1, 4 A2, 5 A3, 6 A4, 7 A5, 8 A6, 9 A7, 10 A8, 11 B8, 12 B7, 13 B6, 14 B5, 15 B4, 16 B3, 17 B2, 18 B1, 19 Vref_B, 20 EN

## LT1085
designator IC?
3A DC/DC Converter (SM)
footprint LM78XX (LM78XX Voltage Reg)
footprint DPAK - 3pin
pins: 1 ADJ, 2 Vout, 3 Vin

## MC-306 32.768K-E3
designator OSC?, comment Oscillator
32.7680kHz Oscillator
footprint MC-306-OSC
pins: 1 OSC_OUT, 2 NC, 3 NC, 4 OSC_IN

## OPA2344
designator IC?
Rail to rail opamp
footprint SOIC-8
pins: 1 OutA, 2 -IN A, 3 +IN A, 4 V-, 5 +IN B, 6 -IN B, 7 Out B, 8 V+

## REF5050AIDGKT
designator 5VREF
5V Precision Reference Voltage
footprint VSSOP-8 (DGK)
pins: 1 DNC, 2 Vin, 3 TEMP, 4 GND, 5 TRIM/NR, 6 VOUT, 7 NC, 8 DNC

## Resistor
designator R?, comment Res  (value not drawn)
Resistor; Value: Value
footprint SMD0603
footprint SMD0805
footprint SMD1206
pins: 1, 2

## RJ45
designator ETH?
RJ45 Ethernet Connector with built in magnetics
footprint RJ45; pin to pad 11>S
pins: 1 TCT, 2 TD+, 3 TD-, 4 RD+, 5 RD-, 6 RCT, 7 G-, 8 G+, 9 Y-, 10 Y+, 11 Shield

## SD Card Slot
designator SD?  (value not drawn)
SD Card Connector (Amphenol)
footprint SDCARD-AMP (Amphenol 101003136802); pin to pad 12>GND
pins: 1 DAT3, 2 CMD, 3 VSS1, 4 VDD, 5 CLK, 6 VSS2, 7 DAT0, 8 DAT1, 9 DAT2, 10 CD, 11 WP, 12 GND

## SM7745HEV
designator OSC?, comment Oscillator
50Mhz Oscillator
footprint SM77H-OSC
pins: 1 EN, 2 GND, 3 Out, 4 VCC

## SN65HVD1050
designator IC?, comment CAN Chip
footprint SOIC-8
pins: 1 TXD, 2 GND, 3 VCC, 4 RXD, 5 VREF, 6 CANL, 7 CANH, 8 S

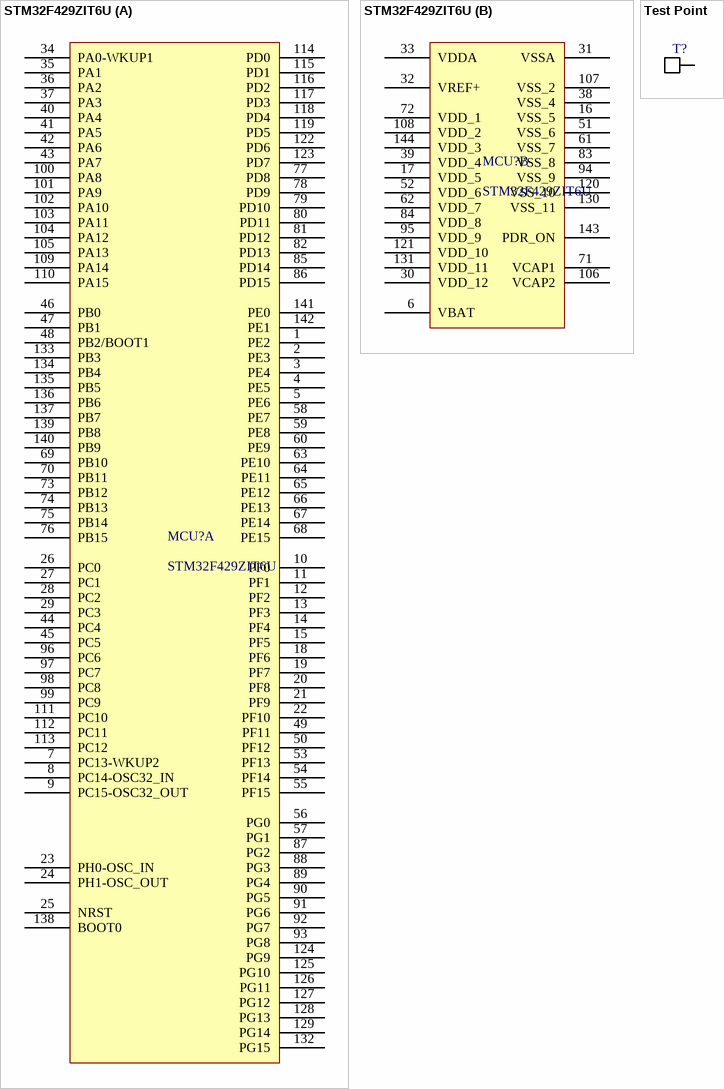
[diagram p15: symbols STM32F429ZIT6U to Test Point]

## STM32F429ZIT6U
designator MCU?
footprint LQPF144
part A pins: 1 PE2, 2 PE3, 3 PE4, 4 PE5, 5 PE6, 7 PC13-WKUP2, 8 PC14-OSC32_IN, 9 PC15-OSC32_OUT, 10 PF0, 11 PF1, 12 PF2, 13 PF3, 14 PF4, 15 PF5, 18 PF6, 19 PF7, 20 PF8, 21 PF9, 22 PF10, 23 PH0-OSC_IN, 24 PH1-OSC_OUT, 25 NRST, 26 PC0, 27 PC1, 28 PC2, 29 PC3, 34 PA0-WKUP1, 35 PA1, 36 PA2, 37 PA3, 40 PA4, 41 PA5, 42 PA6, 43 PA7, 44 PC4, 45 PC5, 46 PB0, 47 PB1, 48 PB2/BOOT1, 49 PF11, 50 PF12, 53 PF13, 54 PF14, 55 PF15, 56 PG0, 57 PG1, 58 PE7, 59 PE8, 60 PE9, 63 PE10, 64 PE11, 65 PE12, 66 PE13, 67 PE14, 68 PE15, 69 PB10, 70 PB11, 73 PB12, 74 PB13, 75 PB14, 76 PB15, 77 PD8, 78 PD9, 79 PD10, 80 PD11, 81 PD12, 82 PD13, 85 PD14, 86 PD15, 87 PG2, 88 PG3, 89 PG4, 90 PG5, 91 PG6, 92 PG7, 93 PG8, 96 PC6, 97 PC7, 98 PC8, 99 PC9, 100 PA8, 101 PA9, 102 PA10, 103 PA11, 104 PA12, 105 PA13, 109 PA14, 110 PA15, 111 PC10, 112 PC11, 113 PC12, 114 PD0, 115 PD1, 116 PD2, 117 PD3, 118 PD4, 119 PD5, 122 PD6, 123 PD7, 124 PG9, 125 PG10, 126 PG11, 127 PG12, 128 PG13, 129 PG14, 132 PG15, 133 PB3, 134 PB4, 135 PB5, 136 PB6, 137 PB7, 138 BOOT0, 139 PB8, 140 PB9, 141 PE0, 142 PE1
part B pins: 6 VBAT, 16 VSS_5, 17 VDD_5, 30 VDD_12, 31 VSSA, 32 VREF+, 33 VDDA, 38 VSS_4, 39 VDD_4, 51 VSS_6, 52 VDD_6, 61 VSS_7, 62 VDD_7, 71 VCAP1, 72 VDD_1, 83 VSS_8, 84 VDD_8, 94 VSS_9, 95 VDD_9, 106 VCAP2, 107 VSS_2, 108 VDD_2, 120 VSS_10, 121 VDD_10, 130 VSS_11, 131 VDD_11, 143 PDR_ON, 144 VDD_3

## Test Point
designator T?  (value not drawn)
Supplier 1: Digi-Key; Supplier Part Number 1: 5019KCT-ND
footprint Test Point
pins: 1


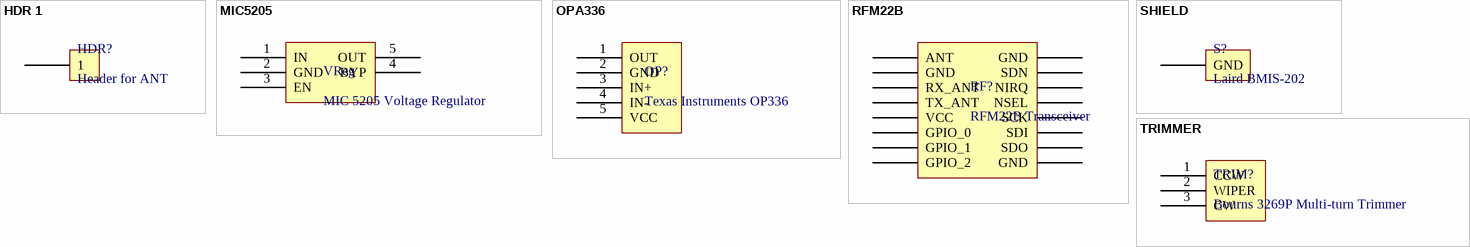
[diagram p16: symbols HDR 1 to TRIMMER]

## HDR 1
designator HDR?, comment Header for ANT
footprint HDR 1 (Header for ANT)
pins: 1

## MIC5205
designator VReg, comment MIC 5205 Voltage Regulator
footprint MIC5205 (MIC5205 3.3V Voltage Regulator)
pins: 1 IN, 2 GND, 3 EN, 4 BYP, 5 OUT

## OPA336
designator OP?, comment Texas Instruments OP336
footprint OPA336 (Texas Instruments Operational Amplifier)
pins: 1 OUT, 2 GND, 3 IN+, 4 IN-, 5 VCC

## RFM22B
designator RF?, comment RFM22B Transceiver
footprint RFM22B
pins: 1 GPIO_2, 2 GPIO_1, 3 GPIO_0, 4 VCC, 5 TX_ANT, 6 RX_ANT, 7 GND, 8 ANT, 9 GND, 10 SDO, 11 SDI, 12 SCK, 13 NSEL, 14 NIRQ, 15 SDN, 16 GND

## SHIELD
designator S?, comment Laird BMIS-202
footprint Shield (Laird Technologies BMI-S-202-F)
pins: 0 GND

## TRIMMER
designator TRIM?, comment Bourns 3269P Multi-turn Trimmer
footprint TRIMMER (Bourns 3269P Multi-turn Trimmer)
pins: 1 CCW, 2 WIPER, 3 CW